# Altium schematic symbol library SnapEDAsch.SchLib: 1 symbol
Pins are listed as number, name and electrical type; pins without a type are passive.

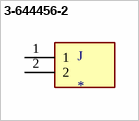
[diagram p0: symbol 3-644456-2]

## 3-644456-2
designator J
Connector Unshrouded Header HDR 2 Position 2.54mm Solder Straight Thru-Hole; Number_of_Positions: 2; MP: 3-644456-2; Centerline_Pitch: 2.54 mm[.1 in]; MF: TE Connectivity; Digi-Key_Part_Number: A31112-ND; Product_Type: Connector; TE_purchase_URL: https://www.te.com/usa-en/product-3-644456-2.html?te_bu=Cor&te_type=disp&te_campaign=seda_glo_cor-seda-global-disp-prtnr-fy19-seda-model-bom-cta_sma-317_1&elqCampaignId=32493; Value: *; Package: None; SnapEDA_Link: https://www.snapeda.com/parts/3-644456-2/TE%20Connectivity%20AMP%20Connectors/view-part/520887/?ref=snap; EU_RoHS_Compliance: Compliant; Digi-Key_Purchase_URL: https://www.digikey.com/product-detail/en/te-connectivity-amp-connectors/3-644456-2/A31112-ND/698344?utm_source=snapeda&utm_medium=aggregator&utm_campaign=symbol
footprint TE_3-644456-2
pins: 1, 2